# Altium integrated library Linear Technology Operational Amplifiers (LT1000).IntLib: 2280 symbols (part 41 of 79)
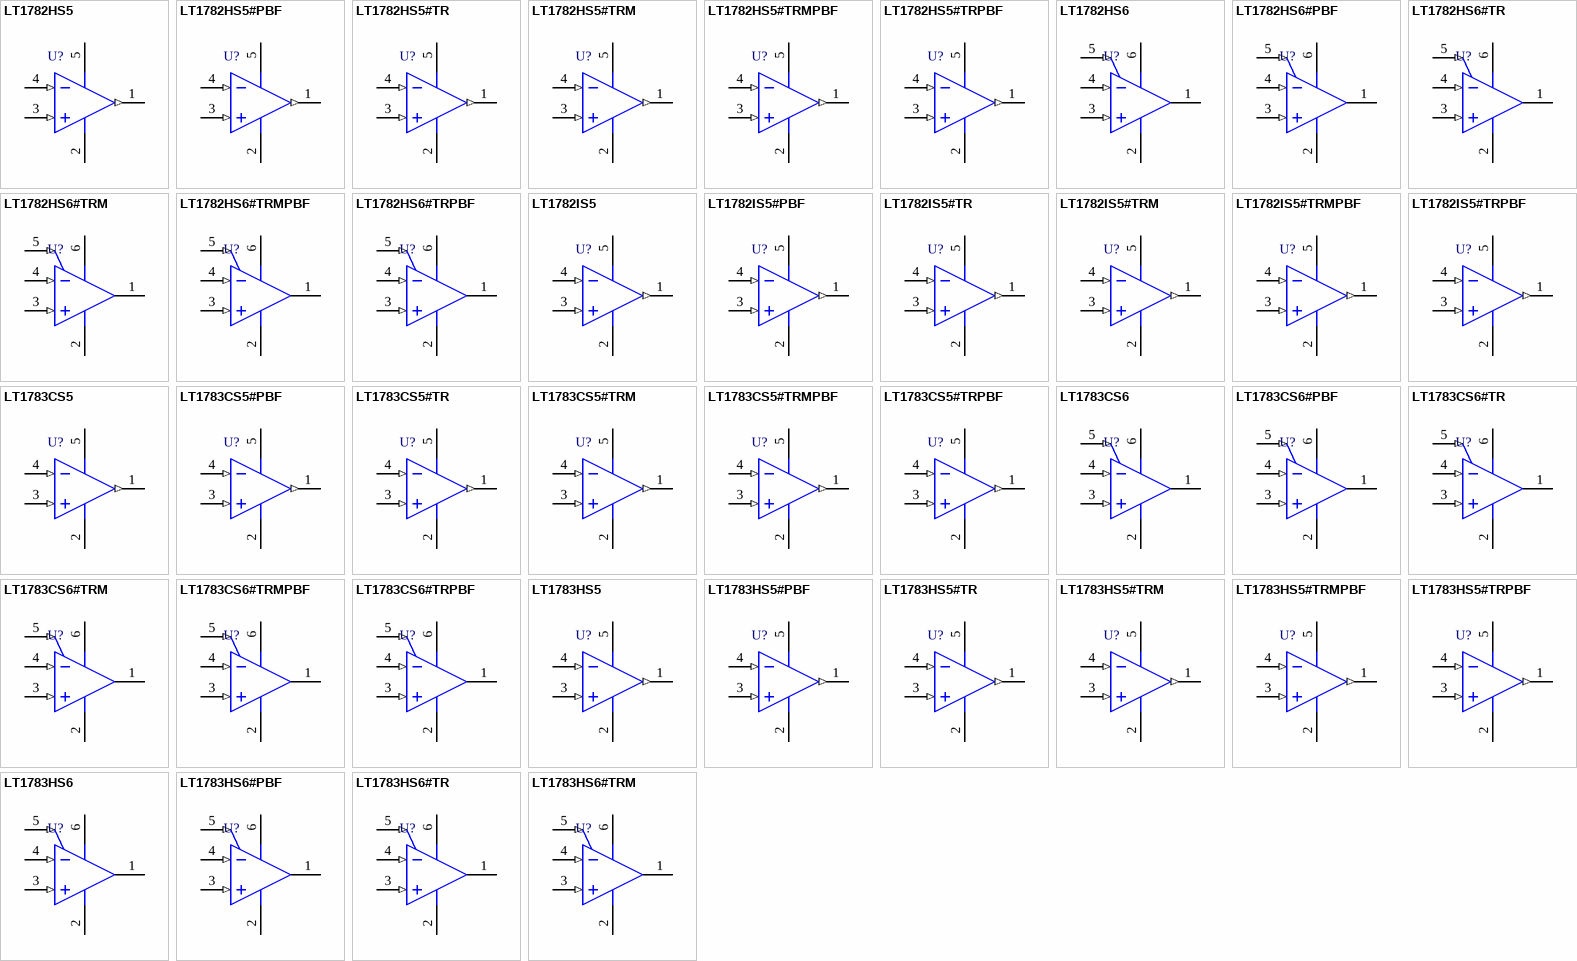
[diagram p145: symbols LT1782HS5 to LT1783HS6#TRM]

## LT1782HS5#TRM
designator U?
Single Channel, Micropower, Over-The-Top Operational Amplifier, RRIO, 0.2 MHz Typical GBW, 0.07 V/us Typical SR, 2.2 to 18 V, 5-Pin SOT23 (S5-5), High Temperature / Automotive, Mini Reel; Linear Technology Part Number: LT1782; Manufacturer: Linear Technology; PartNumber: LT1782HS5#TRM; Channels (#): 1; GBW (MHz) Typical: 0.2; Is (mA) Typical: 0.04; SR (V/us) Typical: 0.07; Vos (mV) Guaranteed: 0.8; Vos (mV) Typical: 0.4; Vs Max (V): 18; Vs Min (V): 2.2; DatasheetVersion: Rev. C; PackageReference: LT-S5-5-TSOT-23; PackageDescription: 5-Lead Plastic TSOT-23, Body 1.63 x 2.90 mm, Pitch 0.95 mm; Supplier 1: Digi-Key; Supplier Part Number 1: LT1782HS5#TRMTR-ND; Supplier 2: Digi-Key; Supplier Part Number 2: LT1782HS5#TRMCT-ND; Packing: Mini Reel; Type: VFB; Mounting Technology: Surface Mount; Code_JEDEC: MO-193; ComponentLink1Description: Manufacturer URL; ComponentLink1URL: http://www.linear.com/; ComponentLink2Description: Datasheet; ComponentLink2URL: http://cds.linear.com/docs/en/datasheet/1782fc.pdf; ComponentLink3Description: Package Specification; ComponentLink3URL: http://cds.linear.com/docs/en/packaging/SOT_5_05-08-1635.pdf
footprint LT-S5-5-TSOT-23_N (SOT23, 5-Leads, Body 2.90x1.63mm, Pitch 0.95mm, IPC Medium Density)
footprint LT-S5-5-TSOT-23_L (SOT23, 5-Leads, Body 2.90x1.63mm, Pitch 0.95mm, IPC High Density)
footprint LT-S5-5-TSOT-23_M (SOT23, 5-Leads, Body 2.90x1.63mm, Pitch 0.95mm, IPC Low Density)
pins: 1 OUT (out), 2 V- (power), 3 +IN (in), 4 -IN (in), 5 V+ (power)

## LT1782HS5#TRMPBF
designator U?
Single Channel, Micropower, Over-The-Top Operational Amplifier, RRIO, 0.2 MHz Typical GBW, 0.07 V/us Typical SR, 2.2 to 18 V, 5-Pin SOT23 (S5-5), High Temperature / Automotive, Pb-Free, Mini Reel; Linear Technology Part Number: LT1782; Manufacturer: Linear Technology; PartNumber: LT1782HS5#TRMPBF; Channels (#): 1; GBW (MHz) Typical: 0.2; Is (mA) Typical: 0.04; SR (V/us) Typical: 0.07; Vos (mV) Guaranteed: 0.8; Vos (mV) Typical: 0.4; Vs Max (V): 18; Vs Min (V): 2.2; DatasheetVersion: Rev. C; PackageReference: LT-S5-5-TSOT-23; PackageDescription: 5-Lead Plastic TSOT-23, Body 1.63 x 2.90 mm, Pitch 0.95 mm; Supplier 1: Digi-Key; Supplier Part Number 1: LT1782HS5#TRMPBFTR-ND; Supplier 2: Digi-Key; Supplier Part Number 2: LT1782HS5#TRMPBFCT-ND; Supplier 3: Digi-Key; Supplier Part Number 3: LT1782HS5#TRMPBFDKR-ND; Supplier 4: Farnell; Supplier Part Number 4: 1663785; Supplier 5: Farnell; Supplier Part Number 5: 1663785RL; Supplier 6: Newark; Supplier Part Number 6: 57M6348; Packing: Mini Reel; RoHS: Pb-Free; Type: VFB; Mounting Technology: Surface Mount; Code_JEDEC: MO-193; ComponentLink1Description: Manufacturer URL; ComponentLink1URL: http://www.linear.com/; ComponentLink2Description: Datasheet; ComponentLink2URL: http://cds.linear.com/docs/en/datasheet/1782fc.pdf; ComponentLink3Description: Package Specification; ComponentLink3URL: http://cds.linear.com/docs/en/packaging/SOT_5_05-08-1635.pdf
footprint LT-S5-5-TSOT-23_N (SOT23, 5-Leads, Body 2.90x1.63mm, Pitch 0.95mm, IPC Medium Density)
footprint LT-S5-5-TSOT-23_L (SOT23, 5-Leads, Body 2.90x1.63mm, Pitch 0.95mm, IPC High Density)
footprint LT-S5-5-TSOT-23_M (SOT23, 5-Leads, Body 2.90x1.63mm, Pitch 0.95mm, IPC Low Density)
pins: 1 OUT (out), 2 V- (power), 3 +IN (in), 4 -IN (in), 5 V+ (power)

## LT1782HS5#TRPBF
designator U?
Single Channel, Micropower, Over-The-Top Operational Amplifier, RRIO, 0.2 MHz Typical GBW, 0.07 V/us Typical SR, 2.2 to 18 V, 5-Pin SOT23 (S5-5), High Temperature / Automotive, Pb-Free, Reel; Linear Technology Part Number: LT1782; Manufacturer: Linear Technology; PartNumber: LT1782HS5#TRPBF; Channels (#): 1; GBW (MHz) Typical: 0.2; Is (mA) Typical: 0.04; SR (V/us) Typical: 0.07; Vos (mV) Guaranteed: 0.8; Vos (mV) Typical: 0.4; Vs Max (V): 18; Vs Min (V): 2.2; DatasheetVersion: Rev. C; PackageReference: LT-S5-5-TSOT-23; PackageDescription: 5-Lead Plastic TSOT-23, Body 1.63 x 2.90 mm, Pitch 0.95 mm; Supplier 1: Digi-Key; Supplier Part Number 1: LT1782HS5#TRPBF-ND; Supplier 2: Newark; Supplier Part Number 2: 57M6349; Packing: Reel; RoHS: Pb-Free; Type: VFB; Mounting Technology: Surface Mount; Code_JEDEC: MO-193; ComponentLink1Description: Manufacturer URL; ComponentLink1URL: http://www.linear.com/; ComponentLink2Description: Datasheet; ComponentLink2URL: http://cds.linear.com/docs/en/datasheet/1782fc.pdf; ComponentLink3Description: Package Specification; ComponentLink3URL: http://cds.linear.com/docs/en/packaging/SOT_5_05-08-1635.pdf
footprint LT-S5-5-TSOT-23_N (SOT23, 5-Leads, Body 2.90x1.63mm, Pitch 0.95mm, IPC Medium Density)
footprint LT-S5-5-TSOT-23_L (SOT23, 5-Leads, Body 2.90x1.63mm, Pitch 0.95mm, IPC High Density)
footprint LT-S5-5-TSOT-23_M (SOT23, 5-Leads, Body 2.90x1.63mm, Pitch 0.95mm, IPC Low Density)
pins: 1 OUT (out), 2 V- (power), 3 +IN (in), 4 -IN (in), 5 V+ (power)

## LT1782HS6
designator U?
Single Channel, Micropower, Over-The-Top Operational Amplifier, RRIO, 0.2 MHz Typical GBW, 0.07 V/us Typical SR, 2.2 to 18 V, 6-Pin SOT23 (S6-6), High Temperature / Automotive; Linear Technology Part Number: LT1782; Manufacturer: Linear Technology; PartNumber: LT1782HS6; Channels (#): 1; GBW (MHz) Typical: 0.2; Is (mA) Typical: 0.04; SR (V/us) Typical: 0.07; Vos (mV) Guaranteed: 0.8; Vos (mV) Typical: 0.4; Vs Max (V): 18; Vs Min (V): 2.2; DatasheetVersion: Rev. C; PackageReference: LT-S6-6-TSOT-23; PackageDescription: 6-Pin Plastic TSOT-23, Body 2.9 x 1.63 mm, Pitch 0.95 mm; Type: VFB; Mounting Technology: Surface Mount; Code_JEDEC: MO-193; ComponentLink1Description: Manufacturer URL; ComponentLink1URL: http://www.linear.com/; ComponentLink2Description: Datasheet; ComponentLink2URL: http://cds.linear.com/docs/en/datasheet/1782fc.pdf; ComponentLink3Description: Package Specification; ComponentLink3URL: http://cds.linear.com/docs/en/packaging/SOT_6_05-08-1636.pdf
footprint LT-S6-6-TSOT-23_N (SOT23, 6-Leads, Body 2.90x1.63mm, Pitch 0.95mm, IPC Medium Density)
footprint LT-S6-6-TSOT-23_L (SOT23, 6-Leads, Body 2.90x1.63mm, Pitch 0.95mm, IPC High Density)
footprint LT-S6-6-TSOT-23_M (SOT23, 6-Leads, Body 2.90x1.63mm, Pitch 0.95mm, IPC Low Density)
pins: 1 OUT (hiz), 2 V- (power), 3 +IN (in), 4 -IN (in), 5 SHDN (in), 6 V+ (power)

## LT1782HS6#PBF
designator U?
Single Channel, Micropower, Over-The-Top Operational Amplifier, RRIO, 0.2 MHz Typical GBW, 0.07 V/us Typical SR, 2.2 to 18 V, 6-Pin SOT23 (S6-6), High Temperature / Automotive, Pb-Free; Linear Technology Part Number: LT1782; Manufacturer: Linear Technology; PartNumber: LT1782HS6#PBF; Channels (#): 1; GBW (MHz) Typical: 0.2; Is (mA) Typical: 0.04; SR (V/us) Typical: 0.07; Vos (mV) Guaranteed: 0.8; Vos (mV) Typical: 0.4; Vs Max (V): 18; Vs Min (V): 2.2; DatasheetVersion: Rev. C; PackageReference: LT-S6-6-TSOT-23; PackageDescription: 6-Pin Plastic TSOT-23, Body 2.9 x 1.63 mm, Pitch 0.95 mm; RoHS: Pb-Free; Type: VFB; Mounting Technology: Surface Mount; Code_JEDEC: MO-193; ComponentLink1Description: Manufacturer URL; ComponentLink1URL: http://www.linear.com/; ComponentLink2Description: Datasheet; ComponentLink2URL: http://cds.linear.com/docs/en/datasheet/1782fc.pdf; ComponentLink3Description: Package Specification; ComponentLink3URL: http://cds.linear.com/docs/en/packaging/SOT_6_05-08-1636.pdf
footprint LT-S6-6-TSOT-23_N (SOT23, 6-Leads, Body 2.90x1.63mm, Pitch 0.95mm, IPC Medium Density)
footprint LT-S6-6-TSOT-23_L (SOT23, 6-Leads, Body 2.90x1.63mm, Pitch 0.95mm, IPC High Density)
footprint LT-S6-6-TSOT-23_M (SOT23, 6-Leads, Body 2.90x1.63mm, Pitch 0.95mm, IPC Low Density)
pins: 1 OUT (hiz), 2 V- (power), 3 +IN (in), 4 -IN (in), 5 SHDN (in), 6 V+ (power)

## LT1782HS6#TR
designator U?
Single Channel, Micropower, Over-The-Top Operational Amplifier, RRIO, 0.2 MHz Typical GBW, 0.07 V/us Typical SR, 2.2 to 18 V, 6-Pin SOT23 (S6-6), High Temperature / Automotive, Reel; Linear Technology Part Number: LT1782; Manufacturer: Linear Technology; PartNumber: LT1782HS6#TR; Channels (#): 1; GBW (MHz) Typical: 0.2; Is (mA) Typical: 0.04; SR (V/us) Typical: 0.07; Vos (mV) Guaranteed: 0.8; Vos (mV) Typical: 0.4; Vs Max (V): 18; Vs Min (V): 2.2; DatasheetVersion: Rev. C; PackageReference: LT-S6-6-TSOT-23; PackageDescription: 6-Pin Plastic TSOT-23, Body 2.9 x 1.63 mm, Pitch 0.95 mm; Supplier 1: Digi-Key; Supplier Part Number 1: LT1782HS6TR-ND; Packing: Reel; Type: VFB; Mounting Technology: Surface Mount; Code_JEDEC: MO-193; ComponentLink1Description: Manufacturer URL; ComponentLink1URL: http://www.linear.com/; ComponentLink2Description: Datasheet; ComponentLink2URL: http://cds.linear.com/docs/en/datasheet/1782fc.pdf; ComponentLink3Description: Package Specification; ComponentLink3URL: http://cds.linear.com/docs/en/packaging/SOT_6_05-08-1636.pdf
footprint LT-S6-6-TSOT-23_N (SOT23, 6-Leads, Body 2.90x1.63mm, Pitch 0.95mm, IPC Medium Density)
footprint LT-S6-6-TSOT-23_L (SOT23, 6-Leads, Body 2.90x1.63mm, Pitch 0.95mm, IPC High Density)
footprint LT-S6-6-TSOT-23_M (SOT23, 6-Leads, Body 2.90x1.63mm, Pitch 0.95mm, IPC Low Density)
pins: 1 OUT (hiz), 2 V- (power), 3 +IN (in), 4 -IN (in), 5 SHDN (in), 6 V+ (power)

## LT1782HS6#TRM
designator U?
Single Channel, Micropower, Over-The-Top Operational Amplifier, RRIO, 0.2 MHz Typical GBW, 0.07 V/us Typical SR, 2.2 to 18 V, 6-Pin SOT23 (S6-6), High Temperature / Automotive, Mini Reel; Linear Technology Part Number: LT1782; Manufacturer: Linear Technology; PartNumber: LT1782HS6#TRM; Channels (#): 1; GBW (MHz) Typical: 0.2; Is (mA) Typical: 0.04; SR (V/us) Typical: 0.07; Vos (mV) Guaranteed: 0.8; Vos (mV) Typical: 0.4; Vs Max (V): 18; Vs Min (V): 2.2; DatasheetVersion: Rev. C; PackageReference: LT-S6-6-TSOT-23; PackageDescription: 6-Pin Plastic TSOT-23, Body 2.9 x 1.63 mm, Pitch 0.95 mm; Supplier 1: Digi-Key; Supplier Part Number 1: LT1782HS6#TRMTR-ND; Supplier 2: Digi-Key; Supplier Part Number 2: LT1782HS6#TRMCT-ND; Packing: Mini Reel; Type: VFB; Mounting Technology: Surface Mount; Code_JEDEC: MO-193; ComponentLink1Description: Manufacturer URL; ComponentLink1URL: http://www.linear.com/; ComponentLink2Description: Datasheet; ComponentLink2URL: http://cds.linear.com/docs/en/datasheet/1782fc.pdf; ComponentLink3Description: Package Specification; ComponentLink3URL: http://cds.linear.com/docs/en/packaging/SOT_6_05-08-1636.pdf
footprint LT-S6-6-TSOT-23_N (SOT23, 6-Leads, Body 2.90x1.63mm, Pitch 0.95mm, IPC Medium Density)
footprint LT-S6-6-TSOT-23_L (SOT23, 6-Leads, Body 2.90x1.63mm, Pitch 0.95mm, IPC High Density)
footprint LT-S6-6-TSOT-23_M (SOT23, 6-Leads, Body 2.90x1.63mm, Pitch 0.95mm, IPC Low Density)
pins: 1 OUT (hiz), 2 V- (power), 3 +IN (in), 4 -IN (in), 5 SHDN (in), 6 V+ (power)

## LT1782HS6#TRMPBF
designator U?
Single Channel, Micropower, Over-The-Top Operational Amplifier, RRIO, 0.2 MHz Typical GBW, 0.07 V/us Typical SR, 2.2 to 18 V, 6-Pin SOT23 (S6-6), High Temperature / Automotive, Pb-Free, Mini Reel; Linear Technology Part Number: LT1782; Manufacturer: Linear Technology; PartNumber: LT1782HS6#TRMPBF; Channels (#): 1; GBW (MHz) Typical: 0.2; Is (mA) Typical: 0.04; SR (V/us) Typical: 0.07; Vos (mV) Guaranteed: 0.8; Vos (mV) Typical: 0.4; Vs Max (V): 18; Vs Min (V): 2.2; DatasheetVersion: Rev. C; PackageReference: LT-S6-6-TSOT-23; PackageDescription: 6-Pin Plastic TSOT-23, Body 2.9 x 1.63 mm, Pitch 0.95 mm; Supplier 1: Digi-Key; Supplier Part Number 1: LT1782HS6#TRMPBF-ND; Packing: Mini Reel; RoHS: Pb-Free; Type: VFB; Mounting Technology: Surface Mount; Code_JEDEC: MO-193; ComponentLink1Description: Manufacturer URL; ComponentLink1URL: http://www.linear.com/; ComponentLink2Description: Datasheet; ComponentLink2URL: http://cds.linear.com/docs/en/datasheet/1782fc.pdf; ComponentLink3Description: Package Specification; ComponentLink3URL: http://cds.linear.com/docs/en/packaging/SOT_6_05-08-1636.pdf
footprint LT-S6-6-TSOT-23_N (SOT23, 6-Leads, Body 2.90x1.63mm, Pitch 0.95mm, IPC Medium Density)
footprint LT-S6-6-TSOT-23_L (SOT23, 6-Leads, Body 2.90x1.63mm, Pitch 0.95mm, IPC High Density)
footprint LT-S6-6-TSOT-23_M (SOT23, 6-Leads, Body 2.90x1.63mm, Pitch 0.95mm, IPC Low Density)
pins: 1 OUT (hiz), 2 V- (power), 3 +IN (in), 4 -IN (in), 5 SHDN (in), 6 V+ (power)

## LT1782HS6#TRPBF
designator U?
Single Channel, Micropower, Over-The-Top Operational Amplifier, RRIO, 0.2 MHz Typical GBW, 0.07 V/us Typical SR, 2.2 to 18 V, 6-Pin SOT23 (S6-6), High Temperature / Automotive, Pb-Free, Reel; Linear Technology Part Number: LT1782; Manufacturer: Linear Technology; PartNumber: LT1782HS6#TRPBF; Channels (#): 1; GBW (MHz) Typical: 0.2; Is (mA) Typical: 0.04; SR (V/us) Typical: 0.07; Vos (mV) Guaranteed: 0.8; Vos (mV) Typical: 0.4; Vs Max (V): 18; Vs Min (V): 2.2; DatasheetVersion: Rev. C; PackageReference: LT-S6-6-TSOT-23; PackageDescription: 6-Pin Plastic TSOT-23, Body 2.9 x 1.63 mm, Pitch 0.95 mm; Supplier 1: Digi-Key; Supplier Part Number 1: LT1782HS6#TRPBF-ND; Packing: Reel; RoHS: Pb-Free; Type: VFB; Mounting Technology: Surface Mount; Code_JEDEC: MO-193; ComponentLink1Description: Manufacturer URL; ComponentLink1URL: http://www.linear.com/; ComponentLink2Description: Datasheet; ComponentLink2URL: http://cds.linear.com/docs/en/datasheet/1782fc.pdf; ComponentLink3Description: Package Specification; ComponentLink3URL: http://cds.linear.com/docs/en/packaging/SOT_6_05-08-1636.pdf
footprint LT-S6-6-TSOT-23_N (SOT23, 6-Leads, Body 2.90x1.63mm, Pitch 0.95mm, IPC Medium Density)
footprint LT-S6-6-TSOT-23_L (SOT23, 6-Leads, Body 2.90x1.63mm, Pitch 0.95mm, IPC High Density)
footprint LT-S6-6-TSOT-23_M (SOT23, 6-Leads, Body 2.90x1.63mm, Pitch 0.95mm, IPC Low Density)
pins: 1 OUT (hiz), 2 V- (power), 3 +IN (in), 4 -IN (in), 5 SHDN (in), 6 V+ (power)

## LT1782IS5
designator U?
Single Channel, Micropower, Over-The-Top Operational Amplifier, RRIO, 0.2 MHz Typical GBW, 0.07 V/us Typical SR, 2.2 to 18 V, 5-Pin SOT23 (S5-5), Industrial; Linear Technology Part Number: LT1782; Manufacturer: Linear Technology; PartNumber: LT1782IS5; Channels (#): 1; GBW (MHz) Typical: 0.2; Is (mA) Typical: 0.04; SR (V/us) Typical: 0.07; Vos (mV) Guaranteed: 0.8; Vos (mV) Typical: 0.4; Vs Max (V): 18; Vs Min (V): 2.2; DatasheetVersion: Rev. C; PackageReference: LT-S5-5-TSOT-23; PackageDescription: 5-Lead Plastic TSOT-23, Body 1.63 x 2.90 mm, Pitch 0.95 mm; Type: VFB; Mounting Technology: Surface Mount; Code_JEDEC: MO-193; ComponentLink1Description: Manufacturer URL; ComponentLink1URL: http://www.linear.com/; ComponentLink2Description: Datasheet; ComponentLink2URL: http://cds.linear.com/docs/en/datasheet/1782fc.pdf; ComponentLink3Description: Package Specification; ComponentLink3URL: http://cds.linear.com/docs/en/packaging/SOT_5_05-08-1635.pdf
footprint LT-S5-5-TSOT-23_N (SOT23, 5-Leads, Body 2.90x1.63mm, Pitch 0.95mm, IPC Medium Density)
footprint LT-S5-5-TSOT-23_L (SOT23, 5-Leads, Body 2.90x1.63mm, Pitch 0.95mm, IPC High Density)
footprint LT-S5-5-TSOT-23_M (SOT23, 5-Leads, Body 2.90x1.63mm, Pitch 0.95mm, IPC Low Density)
pins: 1 OUT (out), 2 V- (power), 3 +IN (in), 4 -IN (in), 5 V+ (power)

## LT1782IS5#PBF
designator U?
Single Channel, Micropower, Over-The-Top Operational Amplifier, RRIO, 0.2 MHz Typical GBW, 0.07 V/us Typical SR, 2.2 to 18 V, 5-Pin SOT23 (S5-5), Industrial, Pb-Free; Linear Technology Part Number: LT1782; Manufacturer: Linear Technology; PartNumber: LT1782IS5#PBF; Channels (#): 1; GBW (MHz) Typical: 0.2; Is (mA) Typical: 0.04; SR (V/us) Typical: 0.07; Vos (mV) Guaranteed: 0.8; Vos (mV) Typical: 0.4; Vs Max (V): 18; Vs Min (V): 2.2; DatasheetVersion: Rev. C; PackageReference: LT-S5-5-TSOT-23; PackageDescription: 5-Lead Plastic TSOT-23, Body 1.63 x 2.90 mm, Pitch 0.95 mm; Supplier 1: Farnell; Supplier Part Number 1: 1531494; Supplier 2: Newark; Supplier Part Number 2: 61M3360; RoHS: Pb-Free; Type: VFB; Mounting Technology: Surface Mount; Code_JEDEC: MO-193; ComponentLink1Description: Manufacturer URL; ComponentLink1URL: http://www.linear.com/; ComponentLink2Description: Datasheet; ComponentLink2URL: http://cds.linear.com/docs/en/datasheet/1782fc.pdf; ComponentLink3Description: Package Specification; ComponentLink3URL: http://cds.linear.com/docs/en/packaging/SOT_5_05-08-1635.pdf
footprint LT-S5-5-TSOT-23_N (SOT23, 5-Leads, Body 2.90x1.63mm, Pitch 0.95mm, IPC Medium Density)
footprint LT-S5-5-TSOT-23_L (SOT23, 5-Leads, Body 2.90x1.63mm, Pitch 0.95mm, IPC High Density)
footprint LT-S5-5-TSOT-23_M (SOT23, 5-Leads, Body 2.90x1.63mm, Pitch 0.95mm, IPC Low Density)
pins: 1 OUT (out), 2 V- (power), 3 +IN (in), 4 -IN (in), 5 V+ (power)

## LT1782IS5#TR
designator U?
Single Channel, Micropower, Over-The-Top Operational Amplifier, RRIO, 0.2 MHz Typical GBW, 0.07 V/us Typical SR, 2.2 to 18 V, 5-Pin SOT23 (S5-5), Industrial, Reel; Linear Technology Part Number: LT1782; Manufacturer: Linear Technology; PartNumber: LT1782IS5#TR; Channels (#): 1; GBW (MHz) Typical: 0.2; Is (mA) Typical: 0.04; SR (V/us) Typical: 0.07; Vos (mV) Guaranteed: 0.8; Vos (mV) Typical: 0.4; Vs Max (V): 18; Vs Min (V): 2.2; DatasheetVersion: Rev. C; PackageReference: LT-S5-5-TSOT-23; PackageDescription: 5-Lead Plastic TSOT-23, Body 1.63 x 2.90 mm, Pitch 0.95 mm; Supplier 1: Digi-Key; Supplier Part Number 1: LT1782IS5TR-ND; Packing: Reel; Type: VFB; Mounting Technology: Surface Mount; Code_JEDEC: MO-193; ComponentLink1Description: Manufacturer URL; ComponentLink1URL: http://www.linear.com/; ComponentLink2Description: Datasheet; ComponentLink2URL: http://cds.linear.com/docs/en/datasheet/1782fc.pdf; ComponentLink3Description: Package Specification; ComponentLink3URL: http://cds.linear.com/docs/en/packaging/SOT_5_05-08-1635.pdf
footprint LT-S5-5-TSOT-23_N (SOT23, 5-Leads, Body 2.90x1.63mm, Pitch 0.95mm, IPC Medium Density)
footprint LT-S5-5-TSOT-23_L (SOT23, 5-Leads, Body 2.90x1.63mm, Pitch 0.95mm, IPC High Density)
footprint LT-S5-5-TSOT-23_M (SOT23, 5-Leads, Body 2.90x1.63mm, Pitch 0.95mm, IPC Low Density)
pins: 1 OUT (out), 2 V- (power), 3 +IN (in), 4 -IN (in), 5 V+ (power)

## LT1782IS5#TRM
designator U?
Single Channel, Micropower, Over-The-Top Operational Amplifier, RRIO, 0.2 MHz Typical GBW, 0.07 V/us Typical SR, 2.2 to 18 V, 5-Pin SOT23 (S5-5), Industrial, Mini Reel; Linear Technology Part Number: LT1782; Manufacturer: Linear Technology; PartNumber: LT1782IS5#TRM; Channels (#): 1; GBW (MHz) Typical: 0.2; Is (mA) Typical: 0.04; SR (V/us) Typical: 0.07; Vos (mV) Guaranteed: 0.8; Vos (mV) Typical: 0.4; Vs Max (V): 18; Vs Min (V): 2.2; DatasheetVersion: Rev. C; PackageReference: LT-S5-5-TSOT-23; PackageDescription: 5-Lead Plastic TSOT-23, Body 1.63 x 2.90 mm, Pitch 0.95 mm; Supplier 1: Digi-Key; Supplier Part Number 1: LT1782IS5#TRMTR-ND; Supplier 2: Digi-Key; Supplier Part Number 2: LT1782IS5#TRMCT-ND; Supplier 3: Newark; Supplier Part Number 3: 57M6355; Packing: Mini Reel; Type: VFB; Mounting Technology: Surface Mount; Code_JEDEC: MO-193; ComponentLink1Description: Manufacturer URL; ComponentLink1URL: http://www.linear.com/; ComponentLink2Description: Datasheet; ComponentLink2URL: http://cds.linear.com/docs/en/datasheet/1782fc.pdf; ComponentLink3Description: Package Specification; ComponentLink3URL: http://cds.linear.com/docs/en/packaging/SOT_5_05-08-1635.pdf
footprint LT-S5-5-TSOT-23_N (SOT23, 5-Leads, Body 2.90x1.63mm, Pitch 0.95mm, IPC Medium Density)
footprint LT-S5-5-TSOT-23_L (SOT23, 5-Leads, Body 2.90x1.63mm, Pitch 0.95mm, IPC High Density)
footprint LT-S5-5-TSOT-23_M (SOT23, 5-Leads, Body 2.90x1.63mm, Pitch 0.95mm, IPC Low Density)
pins: 1 OUT (out), 2 V- (power), 3 +IN (in), 4 -IN (in), 5 V+ (power)

## LT1782IS5#TRMPBF
designator U?
Single Channel, Micropower, Over-The-Top Operational Amplifier, RRIO, 0.2 MHz Typical GBW, 0.07 V/us Typical SR, 2.2 to 18 V, 5-Pin SOT23 (S5-5), Industrial, Pb-Free, Mini Reel; Linear Technology Part Number: LT1782; Manufacturer: Linear Technology; PartNumber: LT1782IS5#TRMPBF; Channels (#): 1; GBW (MHz) Typical: 0.2; Is (mA) Typical: 0.04; SR (V/us) Typical: 0.07; Vos (mV) Guaranteed: 0.8; Vos (mV) Typical: 0.4; Vs Max (V): 18; Vs Min (V): 2.2; DatasheetVersion: Rev. C; PackageReference: LT-S5-5-TSOT-23; PackageDescription: 5-Lead Plastic TSOT-23, Body 1.63 x 2.90 mm, Pitch 0.95 mm; Supplier 1: Digi-Key; Supplier Part Number 1: LT1782IS5#TRMPBFTR-ND; Supplier 2: Digi-Key; Supplier Part Number 2: LT1782IS5#TRMPBFCT-ND; Supplier 3: Digi-Key; Supplier Part Number 3: LT1782IS5#TRMPBFDKR-ND; Supplier 4: Farnell; Supplier Part Number 4: 1663786; Supplier 5: Farnell; Supplier Part Number 5: 1663786RL; Supplier 6: Newark; Supplier Part Number 6: 57M6356; Packing: Mini Reel; RoHS: Pb-Free; Type: VFB; Mounting Technology: Surface Mount; Code_JEDEC: MO-193; ComponentLink1Description: Manufacturer URL; ComponentLink1URL: http://www.linear.com/; ComponentLink2Description: Datasheet; ComponentLink2URL: http://cds.linear.com/docs/en/datasheet/1782fc.pdf; ComponentLink3Description: Package Specification; ComponentLink3URL: http://cds.linear.com/docs/en/packaging/SOT_5_05-08-1635.pdf
footprint LT-S5-5-TSOT-23_N (SOT23, 5-Leads, Body 2.90x1.63mm, Pitch 0.95mm, IPC Medium Density)
footprint LT-S5-5-TSOT-23_L (SOT23, 5-Leads, Body 2.90x1.63mm, Pitch 0.95mm, IPC High Density)
footprint LT-S5-5-TSOT-23_M (SOT23, 5-Leads, Body 2.90x1.63mm, Pitch 0.95mm, IPC Low Density)
pins: 1 OUT (out), 2 V- (power), 3 +IN (in), 4 -IN (in), 5 V+ (power)

## LT1782IS5#TRPBF
designator U?
Single Channel, Micropower, Over-The-Top Operational Amplifier, RRIO, 0.2 MHz Typical GBW, 0.07 V/us Typical SR, 2.2 to 18 V, 5-Pin SOT23 (S5-5), Industrial, Pb-Free, Reel; Linear Technology Part Number: LT1782; Manufacturer: Linear Technology; PartNumber: LT1782IS5#TRPBF; Channels (#): 1; GBW (MHz) Typical: 0.2; Is (mA) Typical: 0.04; SR (V/us) Typical: 0.07; Vos (mV) Guaranteed: 0.8; Vos (mV) Typical: 0.4; Vs Max (V): 18; Vs Min (V): 2.2; DatasheetVersion: Rev. C; PackageReference: LT-S5-5-TSOT-23; PackageDescription: 5-Lead Plastic TSOT-23, Body 1.63 x 2.90 mm, Pitch 0.95 mm; Supplier 1: Digi-Key; Supplier Part Number 1: LT1782IS5#TRPBF-ND; Supplier 2: Newark; Supplier Part Number 2: 57M6357; Packing: Reel; RoHS: Pb-Free; Type: VFB; Mounting Technology: Surface Mount; Code_JEDEC: MO-193; ComponentLink1Description: Manufacturer URL; ComponentLink1URL: http://www.linear.com/; ComponentLink2Description: Datasheet; ComponentLink2URL: http://cds.linear.com/docs/en/datasheet/1782fc.pdf; ComponentLink3Description: Package Specification; ComponentLink3URL: http://cds.linear.com/docs/en/packaging/SOT_5_05-08-1635.pdf
footprint LT-S5-5-TSOT-23_N (SOT23, 5-Leads, Body 2.90x1.63mm, Pitch 0.95mm, IPC Medium Density)
footprint LT-S5-5-TSOT-23_L (SOT23, 5-Leads, Body 2.90x1.63mm, Pitch 0.95mm, IPC High Density)
footprint LT-S5-5-TSOT-23_M (SOT23, 5-Leads, Body 2.90x1.63mm, Pitch 0.95mm, IPC Low Density)
pins: 1 OUT (out), 2 V- (power), 3 +IN (in), 4 -IN (in), 5 V+ (power)

## LT1783CS5
designator U?
Single Channel, Micropower, Over-The-Top, Operational Amplifier, RRIO, 1.25 MHz Typical GBW, 0.42 V/us Typical SR, 2.2 to 18 V, 5-Pin SOT23 (S5-5), Commercial; Linear Technology Part Number: LT1783; Manufacturer: Linear Technology; PartNumber: LT1783CS5; Channels (#): 1; GBW (MHz) Typical: 1.25; Is (mA) Typical: 0.21; SR (V/us) Typical: 0.42; Vos (mV) Guaranteed: 0.8; Vos (mV) Typical: 0.4; Vs Max (V): 18; Vs Min (V): 2.2; DatasheetVersion: Rev. D; PackageReference: LT-S5-5-TSOT-23; PackageDescription: 5-Lead Plastic TSOT-23, Body 1.63 x 2.90 mm, Pitch 0.95 mm; Type: VFB; Mounting Technology: Surface Mount; Code_JEDEC: MO-193; ComponentLink1Description: Manufacturer URL; ComponentLink1URL: http://www.linear.com/; ComponentLink2Description: Datasheet; ComponentLink2URL: http://cds.linear.com/docs/en/datasheet/1783fd.pdf; ComponentLink3Description: Package Specification; ComponentLink3URL: http://cds.linear.com/docs/en/packaging/SOT_5_05-08-1635.pdf
footprint LT-S5-5-TSOT-23_N (SOT23, 5-Leads, Body 2.90x1.63mm, Pitch 0.95mm, IPC Medium Density)
footprint LT-S5-5-TSOT-23_L (SOT23, 5-Leads, Body 2.90x1.63mm, Pitch 0.95mm, IPC High Density)
footprint LT-S5-5-TSOT-23_M (SOT23, 5-Leads, Body 2.90x1.63mm, Pitch 0.95mm, IPC Low Density)
pins: 1 OUT (out), 2 V- (power), 3 +IN (in), 4 -IN (in), 5 V+ (power)

## LT1783CS5#PBF
designator U?
Single Channel, Micropower, Over-The-Top, Operational Amplifier, RRIO, 1.25 MHz Typical GBW, 0.42 V/us Typical SR, 2.2 to 18 V, 5-Pin SOT23 (S5-5), Commercial, Pb-Free; Linear Technology Part Number: LT1783; Manufacturer: Linear Technology; PartNumber: LT1783CS5#PBF; Channels (#): 1; GBW (MHz) Typical: 1.25; Is (mA) Typical: 0.21; SR (V/us) Typical: 0.42; Vos (mV) Guaranteed: 0.8; Vos (mV) Typical: 0.4; Vs Max (V): 18; Vs Min (V): 2.2; DatasheetVersion: Rev. D; PackageReference: LT-S5-5-TSOT-23; PackageDescription: 5-Lead Plastic TSOT-23, Body 1.63 x 2.90 mm, Pitch 0.95 mm; Supplier 1: Farnell; Supplier Part Number 1: 2294682; Supplier 2: Newark; Supplier Part Number 2: 61M3361; RoHS: Pb-Free; Type: VFB; Mounting Technology: Surface Mount; Code_JEDEC: MO-193; ComponentLink1Description: Manufacturer URL; ComponentLink1URL: http://www.linear.com/; ComponentLink2Description: Datasheet; ComponentLink2URL: http://cds.linear.com/docs/en/datasheet/1783fd.pdf; ComponentLink3Description: Package Specification; ComponentLink3URL: http://cds.linear.com/docs/en/packaging/SOT_5_05-08-1635.pdf
footprint LT-S5-5-TSOT-23_N (SOT23, 5-Leads, Body 2.90x1.63mm, Pitch 0.95mm, IPC Medium Density)
footprint LT-S5-5-TSOT-23_L (SOT23, 5-Leads, Body 2.90x1.63mm, Pitch 0.95mm, IPC High Density)
footprint LT-S5-5-TSOT-23_M (SOT23, 5-Leads, Body 2.90x1.63mm, Pitch 0.95mm, IPC Low Density)
pins: 1 OUT (out), 2 V- (power), 3 +IN (in), 4 -IN (in), 5 V+ (power)

## LT1783CS5#TR
designator U?
Single Channel, Micropower, Over-The-Top, Operational Amplifier, RRIO, 1.25 MHz Typical GBW, 0.42 V/us Typical SR, 2.2 to 18 V, 5-Pin SOT23 (S5-5), Commercial, Reel; Linear Technology Part Number: LT1783; Manufacturer: Linear Technology; PartNumber: LT1783CS5#TR; Channels (#): 1; GBW (MHz) Typical: 1.25; Is (mA) Typical: 0.21; SR (V/us) Typical: 0.42; Vos (mV) Guaranteed: 0.8; Vos (mV) Typical: 0.4; Vs Max (V): 18; Vs Min (V): 2.2; DatasheetVersion: Rev. D; PackageReference: LT-S5-5-TSOT-23; PackageDescription: 5-Lead Plastic TSOT-23, Body 1.63 x 2.90 mm, Pitch 0.95 mm; Supplier 1: Digi-Key; Supplier Part Number 1: LT1783CS5#TR-ND; Packing: Reel; Type: VFB; Mounting Technology: Surface Mount; Code_JEDEC: MO-193; ComponentLink1Description: Manufacturer URL; ComponentLink1URL: http://www.linear.com/; ComponentLink2Description: Datasheet; ComponentLink2URL: http://cds.linear.com/docs/en/datasheet/1783fd.pdf; ComponentLink3Description: Package Specification; ComponentLink3URL: http://cds.linear.com/docs/en/packaging/SOT_5_05-08-1635.pdf
footprint LT-S5-5-TSOT-23_N (SOT23, 5-Leads, Body 2.90x1.63mm, Pitch 0.95mm, IPC Medium Density)
footprint LT-S5-5-TSOT-23_L (SOT23, 5-Leads, Body 2.90x1.63mm, Pitch 0.95mm, IPC High Density)
footprint LT-S5-5-TSOT-23_M (SOT23, 5-Leads, Body 2.90x1.63mm, Pitch 0.95mm, IPC Low Density)
pins: 1 OUT (out), 2 V- (power), 3 +IN (in), 4 -IN (in), 5 V+ (power)

## LT1783CS5#TRM
designator U?
Single Channel, Micropower, Over-The-Top, Operational Amplifier, RRIO, 1.25 MHz Typical GBW, 0.42 V/us Typical SR, 2.2 to 18 V, 5-Pin SOT23 (S5-5), Commercial, Mini Reel; Linear Technology Part Number: LT1783; Manufacturer: Linear Technology; PartNumber: LT1783CS5#TRM; Channels (#): 1; GBW (MHz) Typical: 1.25; Is (mA) Typical: 0.21; SR (V/us) Typical: 0.42; Vos (mV) Guaranteed: 0.8; Vos (mV) Typical: 0.4; Vs Max (V): 18; Vs Min (V): 2.2; DatasheetVersion: Rev. D; PackageReference: LT-S5-5-TSOT-23; PackageDescription: 5-Lead Plastic TSOT-23, Body 1.63 x 2.90 mm, Pitch 0.95 mm; Supplier 1: Digi-Key; Supplier Part Number 1: LT1783CS5#TRM-ND; Packing: Mini Reel; Type: VFB; Mounting Technology: Surface Mount; Code_JEDEC: MO-193; ComponentLink1Description: Manufacturer URL; ComponentLink1URL: http://www.linear.com/; ComponentLink2Description: Datasheet; ComponentLink2URL: http://cds.linear.com/docs/en/datasheet/1783fd.pdf; ComponentLink3Description: Package Specification; ComponentLink3URL: http://cds.linear.com/docs/en/packaging/SOT_5_05-08-1635.pdf
footprint LT-S5-5-TSOT-23_N (SOT23, 5-Leads, Body 2.90x1.63mm, Pitch 0.95mm, IPC Medium Density)
footprint LT-S5-5-TSOT-23_L (SOT23, 5-Leads, Body 2.90x1.63mm, Pitch 0.95mm, IPC High Density)
footprint LT-S5-5-TSOT-23_M (SOT23, 5-Leads, Body 2.90x1.63mm, Pitch 0.95mm, IPC Low Density)
pins: 1 OUT (out), 2 V- (power), 3 +IN (in), 4 -IN (in), 5 V+ (power)

## LT1783CS5#TRMPBF
designator U?
Single Channel, Micropower, Over-The-Top, Operational Amplifier, RRIO, 1.25 MHz Typical GBW, 0.42 V/us Typical SR, 2.2 to 18 V, 5-Pin SOT23 (S5-5), Commercial, Pb-Free, Mini Reel; Linear Technology Part Number: LT1783; Manufacturer: Linear Technology; PartNumber: LT1783CS5#TRMPBF; Channels (#): 1; GBW (MHz) Typical: 1.25; Is (mA) Typical: 0.21; SR (V/us) Typical: 0.42; Vos (mV) Guaranteed: 0.8; Vos (mV) Typical: 0.4; Vs Max (V): 18; Vs Min (V): 2.2; DatasheetVersion: Rev. D; PackageReference: LT-S5-5-TSOT-23; PackageDescription: 5-Lead Plastic TSOT-23, Body 1.63 x 2.90 mm, Pitch 0.95 mm; Supplier 1: Digi-Key; Supplier Part Number 1: LT1783CS5#TRMPBFTR-ND; Supplier 2: Digi-Key; Supplier Part Number 2: LT1783CS5#TRMPBFCT-ND; Supplier 3: Digi-Key; Supplier Part Number 3: LT1783CS5#TRMPBFDKR-ND; Supplier 4: Newark; Supplier Part Number 4: 57M6364; Packing: Mini Reel; RoHS: Pb-Free; Type: VFB; Mounting Technology: Surface Mount; Code_JEDEC: MO-193; ComponentLink1Description: Manufacturer URL; ComponentLink1URL: http://www.linear.com/; ComponentLink2Description: Datasheet; ComponentLink2URL: http://cds.linear.com/docs/en/datasheet/1783fd.pdf; ComponentLink3Description: Package Specification; ComponentLink3URL: http://cds.linear.com/docs/en/packaging/SOT_5_05-08-1635.pdf
footprint LT-S5-5-TSOT-23_N (SOT23, 5-Leads, Body 2.90x1.63mm, Pitch 0.95mm, IPC Medium Density)
footprint LT-S5-5-TSOT-23_L (SOT23, 5-Leads, Body 2.90x1.63mm, Pitch 0.95mm, IPC High Density)
footprint LT-S5-5-TSOT-23_M (SOT23, 5-Leads, Body 2.90x1.63mm, Pitch 0.95mm, IPC Low Density)
pins: 1 OUT (out), 2 V- (power), 3 +IN (in), 4 -IN (in), 5 V+ (power)

## LT1783CS5#TRPBF
designator U?
Single Channel, Micropower, Over-The-Top, Operational Amplifier, RRIO, 1.25 MHz Typical GBW, 0.42 V/us Typical SR, 2.2 to 18 V, 5-Pin SOT23 (S5-5), Commercial, Pb-Free, Reel; Linear Technology Part Number: LT1783; Manufacturer: Linear Technology; PartNumber: LT1783CS5#TRPBF; Channels (#): 1; GBW (MHz) Typical: 1.25; Is (mA) Typical: 0.21; SR (V/us) Typical: 0.42; Vos (mV) Guaranteed: 0.8; Vos (mV) Typical: 0.4; Vs Max (V): 18; Vs Min (V): 2.2; DatasheetVersion: Rev. D; PackageReference: LT-S5-5-TSOT-23; PackageDescription: 5-Lead Plastic TSOT-23, Body 1.63 x 2.90 mm, Pitch 0.95 mm; Supplier 1: Digi-Key; Supplier Part Number 1: LT1783CS5#TRPBF-ND; Supplier 2: Newark; Supplier Part Number 2: 57M6365; Packing: Reel; RoHS: Pb-Free; Type: VFB; Mounting Technology: Surface Mount; Code_JEDEC: MO-193; ComponentLink1Description: Manufacturer URL; ComponentLink1URL: http://www.linear.com/; ComponentLink2Description: Datasheet; ComponentLink2URL: http://cds.linear.com/docs/en/datasheet/1783fd.pdf; ComponentLink3Description: Package Specification; ComponentLink3URL: http://cds.linear.com/docs/en/packaging/SOT_5_05-08-1635.pdf
footprint LT-S5-5-TSOT-23_N (SOT23, 5-Leads, Body 2.90x1.63mm, Pitch 0.95mm, IPC Medium Density)
footprint LT-S5-5-TSOT-23_L (SOT23, 5-Leads, Body 2.90x1.63mm, Pitch 0.95mm, IPC High Density)
footprint LT-S5-5-TSOT-23_M (SOT23, 5-Leads, Body 2.90x1.63mm, Pitch 0.95mm, IPC Low Density)
pins: 1 OUT (out), 2 V- (power), 3 +IN (in), 4 -IN (in), 5 V+ (power)

## LT1783CS6
designator U?
Single Channel, Micropower, Over-The-Top, Operational Amplifier, RRIO, 1.25 MHz Typical GBW, 0.42 V/us Typical SR, 2.2 to 18 V, 6-Pin SOT23 (S6-6), Commercial; Linear Technology Part Number: LT1783; Manufacturer: Linear Technology; PartNumber: LT1783CS6; Channels (#): 1; GBW (MHz) Typical: 1.25; Is (mA) Typical: 0.21; SR (V/us) Typical: 0.42; Vos (mV) Guaranteed: 0.8; Vos (mV) Typical: 0.4; Vs Max (V): 18; Vs Min (V): 2.2; DatasheetVersion: Rev. D; PackageReference: LT-S6-6-TSOT-23; PackageDescription: 6-Pin Plastic TSOT-23, Body 2.9 x 1.63 mm, Pitch 0.95 mm; Type: VFB; Mounting Technology: Surface Mount; Code_JEDEC: MO-193; ComponentLink1Description: Manufacturer URL; ComponentLink1URL: http://www.linear.com/; ComponentLink2Description: Datasheet; ComponentLink2URL: http://cds.linear.com/docs/en/datasheet/1783fd.pdf; ComponentLink3Description: Package Specification; ComponentLink3URL: http://cds.linear.com/docs/en/packaging/SOT_6_05-08-1636.pdf
footprint LT-S6-6-TSOT-23_N (SOT23, 6-Leads, Body 2.90x1.63mm, Pitch 0.95mm, IPC Medium Density)
footprint LT-S6-6-TSOT-23_L (SOT23, 6-Leads, Body 2.90x1.63mm, Pitch 0.95mm, IPC High Density)
footprint LT-S6-6-TSOT-23_M (SOT23, 6-Leads, Body 2.90x1.63mm, Pitch 0.95mm, IPC Low Density)
pins: 1 OUT (hiz), 2 V- (power), 3 +IN (in), 4 -IN (in), 5 SHDN (in), 6 V+ (power)

## LT1783CS6#PBF
designator U?
Single Channel, Micropower, Over-The-Top, Operational Amplifier, RRIO, 1.25 MHz Typical GBW, 0.42 V/us Typical SR, 2.2 to 18 V, 6-Pin SOT23 (S6-6), Commercial, Pb-Free; Linear Technology Part Number: LT1783; Manufacturer: Linear Technology; PartNumber: LT1783CS6#PBF; Channels (#): 1; GBW (MHz) Typical: 1.25; Is (mA) Typical: 0.21; SR (V/us) Typical: 0.42; Vos (mV) Guaranteed: 0.8; Vos (mV) Typical: 0.4; Vs Max (V): 18; Vs Min (V): 2.2; DatasheetVersion: Rev. D; PackageReference: LT-S6-6-TSOT-23; PackageDescription: 6-Pin Plastic TSOT-23, Body 2.9 x 1.63 mm, Pitch 0.95 mm; Supplier 1: Newark; Supplier Part Number 1: 86R9826; RoHS: Pb-Free; Type: VFB; Mounting Technology: Surface Mount; Code_JEDEC: MO-193; ComponentLink1Description: Manufacturer URL; ComponentLink1URL: http://www.linear.com/; ComponentLink2Description: Datasheet; ComponentLink2URL: http://cds.linear.com/docs/en/datasheet/1783fd.pdf; ComponentLink3Description: Package Specification; ComponentLink3URL: http://cds.linear.com/docs/en/packaging/SOT_6_05-08-1636.pdf
footprint LT-S6-6-TSOT-23_N (SOT23, 6-Leads, Body 2.90x1.63mm, Pitch 0.95mm, IPC Medium Density)
footprint LT-S6-6-TSOT-23_L (SOT23, 6-Leads, Body 2.90x1.63mm, Pitch 0.95mm, IPC High Density)
footprint LT-S6-6-TSOT-23_M (SOT23, 6-Leads, Body 2.90x1.63mm, Pitch 0.95mm, IPC Low Density)
pins: 1 OUT (hiz), 2 V- (power), 3 +IN (in), 4 -IN (in), 5 SHDN (in), 6 V+ (power)

## LT1783CS6#TR
designator U?
Single Channel, Micropower, Over-The-Top, Operational Amplifier, RRIO, 1.25 MHz Typical GBW, 0.42 V/us Typical SR, 2.2 to 18 V, 6-Pin SOT23 (S6-6), Commercial, Reel; Linear Technology Part Number: LT1783; Manufacturer: Linear Technology; PartNumber: LT1783CS6#TR; Channels (#): 1; GBW (MHz) Typical: 1.25; Is (mA) Typical: 0.21; SR (V/us) Typical: 0.42; Vos (mV) Guaranteed: 0.8; Vos (mV) Typical: 0.4; Vs Max (V): 18; Vs Min (V): 2.2; DatasheetVersion: Rev. D; PackageReference: LT-S6-6-TSOT-23; PackageDescription: 6-Pin Plastic TSOT-23, Body 2.9 x 1.63 mm, Pitch 0.95 mm; Supplier 1: Digi-Key; Supplier Part Number 1: LT1783CS6#TR-ND; Packing: Reel; Type: VFB; Mounting Technology: Surface Mount; Code_JEDEC: MO-193; ComponentLink1Description: Manufacturer URL; ComponentLink1URL: http://www.linear.com/; ComponentLink2Description: Datasheet; ComponentLink2URL: http://cds.linear.com/docs/en/datasheet/1783fd.pdf; ComponentLink3Description: Package Specification; ComponentLink3URL: http://cds.linear.com/docs/en/packaging/SOT_6_05-08-1636.pdf
footprint LT-S6-6-TSOT-23_N (SOT23, 6-Leads, Body 2.90x1.63mm, Pitch 0.95mm, IPC Medium Density)
footprint LT-S6-6-TSOT-23_L (SOT23, 6-Leads, Body 2.90x1.63mm, Pitch 0.95mm, IPC High Density)
footprint LT-S6-6-TSOT-23_M (SOT23, 6-Leads, Body 2.90x1.63mm, Pitch 0.95mm, IPC Low Density)
pins: 1 OUT (hiz), 2 V- (power), 3 +IN (in), 4 -IN (in), 5 SHDN (in), 6 V+ (power)

## LT1783CS6#TRM
designator U?
Single Channel, Micropower, Over-The-Top, Operational Amplifier, RRIO, 1.25 MHz Typical GBW, 0.42 V/us Typical SR, 2.2 to 18 V, 6-Pin SOT23 (S6-6), Commercial, Mini Reel; Linear Technology Part Number: LT1783; Manufacturer: Linear Technology; PartNumber: LT1783CS6#TRM; Channels (#): 1; GBW (MHz) Typical: 1.25; Is (mA) Typical: 0.21; SR (V/us) Typical: 0.42; Vos (mV) Guaranteed: 0.8; Vos (mV) Typical: 0.4; Vs Max (V): 18; Vs Min (V): 2.2; DatasheetVersion: Rev. D; PackageReference: LT-S6-6-TSOT-23; PackageDescription: 6-Pin Plastic TSOT-23, Body 2.9 x 1.63 mm, Pitch 0.95 mm; Supplier 1: Digi-Key; Supplier Part Number 1: LT1783CS6#TRM-ND; Packing: Mini Reel; Type: VFB; Mounting Technology: Surface Mount; Code_JEDEC: MO-193; ComponentLink1Description: Manufacturer URL; ComponentLink1URL: http://www.linear.com/; ComponentLink2Description: Datasheet; ComponentLink2URL: http://cds.linear.com/docs/en/datasheet/1783fd.pdf; ComponentLink3Description: Package Specification; ComponentLink3URL: http://cds.linear.com/docs/en/packaging/SOT_6_05-08-1636.pdf
footprint LT-S6-6-TSOT-23_N (SOT23, 6-Leads, Body 2.90x1.63mm, Pitch 0.95mm, IPC Medium Density)
footprint LT-S6-6-TSOT-23_L (SOT23, 6-Leads, Body 2.90x1.63mm, Pitch 0.95mm, IPC High Density)
footprint LT-S6-6-TSOT-23_M (SOT23, 6-Leads, Body 2.90x1.63mm, Pitch 0.95mm, IPC Low Density)
pins: 1 OUT (hiz), 2 V- (power), 3 +IN (in), 4 -IN (in), 5 SHDN (in), 6 V+ (power)

## LT1783CS6#TRMPBF
designator U?
Single Channel, Micropower, Over-The-Top, Operational Amplifier, RRIO, 1.25 MHz Typical GBW, 0.42 V/us Typical SR, 2.2 to 18 V, 6-Pin SOT23 (S6-6), Commercial, Pb-Free, Mini Reel; Linear Technology Part Number: LT1783; Manufacturer: Linear Technology; PartNumber: LT1783CS6#TRMPBF; Channels (#): 1; GBW (MHz) Typical: 1.25; Is (mA) Typical: 0.21; SR (V/us) Typical: 0.42; Vos (mV) Guaranteed: 0.8; Vos (mV) Typical: 0.4; Vs Max (V): 18; Vs Min (V): 2.2; DatasheetVersion: Rev. D; PackageReference: LT-S6-6-TSOT-23; PackageDescription: 6-Pin Plastic TSOT-23, Body 2.9 x 1.63 mm, Pitch 0.95 mm; Supplier 1: Digi-Key; Supplier Part Number 1: LT1783CS6#TRMPBFTR-ND; Supplier 2: Digi-Key; Supplier Part Number 2: LT1783CS6#TRMPBFCT-ND; Supplier 3: Digi-Key; Supplier Part Number 3: LT1783CS6#TRMPBFDKR-ND; Supplier 4: Newark; Supplier Part Number 4: 57M6368; Packing: Mini Reel; RoHS: Pb-Free; Type: VFB; Mounting Technology: Surface Mount; Code_JEDEC: MO-193; ComponentLink1Description: Manufacturer URL; ComponentLink1URL: http://www.linear.com/; ComponentLink2Description: Datasheet; ComponentLink2URL: http://cds.linear.com/docs/en/datasheet/1783fd.pdf; ComponentLink3Description: Package Specification; ComponentLink3URL: http://cds.linear.com/docs/en/packaging/SOT_6_05-08-1636.pdf
footprint LT-S6-6-TSOT-23_N (SOT23, 6-Leads, Body 2.90x1.63mm, Pitch 0.95mm, IPC Medium Density)
footprint LT-S6-6-TSOT-23_L (SOT23, 6-Leads, Body 2.90x1.63mm, Pitch 0.95mm, IPC High Density)
footprint LT-S6-6-TSOT-23_M (SOT23, 6-Leads, Body 2.90x1.63mm, Pitch 0.95mm, IPC Low Density)
pins: 1 OUT (hiz), 2 V- (power), 3 +IN (in), 4 -IN (in), 5 SHDN (in), 6 V+ (power)

## LT1783CS6#TRPBF
designator U?
Single Channel, Micropower, Over-The-Top, Operational Amplifier, RRIO, 1.25 MHz Typical GBW, 0.42 V/us Typical SR, 2.2 to 18 V, 6-Pin SOT23 (S6-6), Commercial, Pb-Free, Reel; Linear Technology Part Number: LT1783; Manufacturer: Linear Technology; PartNumber: LT1783CS6#TRPBF; Channels (#): 1; GBW (MHz) Typical: 1.25; Is (mA) Typical: 0.21; SR (V/us) Typical: 0.42; Vos (mV) Guaranteed: 0.8; Vos (mV) Typical: 0.4; Vs Max (V): 18; Vs Min (V): 2.2; DatasheetVersion: Rev. D; PackageReference: LT-S6-6-TSOT-23; PackageDescription: 6-Pin Plastic TSOT-23, Body 2.9 x 1.63 mm, Pitch 0.95 mm; Supplier 1: Digi-Key; Supplier Part Number 1: LT1783CS6#TRPBF-ND; Supplier 2: Newark; Supplier Part Number 2: 57M6369; Packing: Reel; RoHS: Pb-Free; Type: VFB; Mounting Technology: Surface Mount; Code_JEDEC: MO-193; ComponentLink1Description: Manufacturer URL; ComponentLink1URL: http://www.linear.com/; ComponentLink2Description: Datasheet; ComponentLink2URL: http://cds.linear.com/docs/en/datasheet/1783fd.pdf; ComponentLink3Description: Package Specification; ComponentLink3URL: http://cds.linear.com/docs/en/packaging/SOT_6_05-08-1636.pdf
footprint LT-S6-6-TSOT-23_N (SOT23, 6-Leads, Body 2.90x1.63mm, Pitch 0.95mm, IPC Medium Density)
footprint LT-S6-6-TSOT-23_L (SOT23, 6-Leads, Body 2.90x1.63mm, Pitch 0.95mm, IPC High Density)
footprint LT-S6-6-TSOT-23_M (SOT23, 6-Leads, Body 2.90x1.63mm, Pitch 0.95mm, IPC Low Density)
pins: 1 OUT (hiz), 2 V- (power), 3 +IN (in), 4 -IN (in), 5 SHDN (in), 6 V+ (power)

## LT1783HS5
designator U?
Single Channel, Micropower, Over-The-Top, Operational Amplifier, RRIO, 1.25 MHz Typical GBW, 0.42 V/us Typical SR, 2.2 to 18 V, 5-Pin SOT23 (S5-5), High Temperature / Automotive; Linear Technology Part Number: LT1783; Manufacturer: Linear Technology; PartNumber: LT1783HS5; Channels (#): 1; GBW (MHz) Typical: 1.25; Is (mA) Typical: 0.21; SR (V/us) Typical: 0.42; Vos (mV) Guaranteed: 0.8; Vos (mV) Typical: 0.4; Vs Max (V): 18; Vs Min (V): 2.2; DatasheetVersion: Rev. D; PackageReference: LT-S5-5-TSOT-23; PackageDescription: 5-Lead Plastic TSOT-23, Body 1.63 x 2.90 mm, Pitch 0.95 mm; Type: VFB; Mounting Technology: Surface Mount; Code_JEDEC: MO-193; ComponentLink1Description: Manufacturer URL; ComponentLink1URL: http://www.linear.com/; ComponentLink2Description: Datasheet; ComponentLink2URL: http://cds.linear.com/docs/en/datasheet/1783fd.pdf; ComponentLink3Description: Package Specification; ComponentLink3URL: http://cds.linear.com/docs/en/packaging/SOT_5_05-08-1635.pdf
footprint LT-S5-5-TSOT-23_N (SOT23, 5-Leads, Body 2.90x1.63mm, Pitch 0.95mm, IPC Medium Density)
footprint LT-S5-5-TSOT-23_L (SOT23, 5-Leads, Body 2.90x1.63mm, Pitch 0.95mm, IPC High Density)
footprint LT-S5-5-TSOT-23_M (SOT23, 5-Leads, Body 2.90x1.63mm, Pitch 0.95mm, IPC Low Density)
pins: 1 OUT (out), 2 V- (power), 3 +IN (in), 4 -IN (in), 5 V+ (power)

## LT1783HS5#PBF
designator U?
Single Channel, Micropower, Over-The-Top, Operational Amplifier, RRIO, 1.25 MHz Typical GBW, 0.42 V/us Typical SR, 2.2 to 18 V, 5-Pin SOT23 (S5-5), High Temperature / Automotive, Pb-Free; Linear Technology Part Number: LT1783; Manufacturer: Linear Technology; PartNumber: LT1783HS5#PBF; Channels (#): 1; GBW (MHz) Typical: 1.25; Is (mA) Typical: 0.21; SR (V/us) Typical: 0.42; Vos (mV) Guaranteed: 0.8; Vos (mV) Typical: 0.4; Vs Max (V): 18; Vs Min (V): 2.2; DatasheetVersion: Rev. D; PackageReference: LT-S5-5-TSOT-23; PackageDescription: 5-Lead Plastic TSOT-23, Body 1.63 x 2.90 mm, Pitch 0.95 mm; Supplier 1: Newark; Supplier Part Number 1: 78T3715; RoHS: Pb-Free; Type: VFB; Mounting Technology: Surface Mount; Code_JEDEC: MO-193; ComponentLink1Description: Manufacturer URL; ComponentLink1URL: http://www.linear.com/; ComponentLink2Description: Datasheet; ComponentLink2URL: http://cds.linear.com/docs/en/datasheet/1783fd.pdf; ComponentLink3Description: Package Specification; ComponentLink3URL: http://cds.linear.com/docs/en/packaging/SOT_5_05-08-1635.pdf
footprint LT-S5-5-TSOT-23_N (SOT23, 5-Leads, Body 2.90x1.63mm, Pitch 0.95mm, IPC Medium Density)
footprint LT-S5-5-TSOT-23_L (SOT23, 5-Leads, Body 2.90x1.63mm, Pitch 0.95mm, IPC High Density)
footprint LT-S5-5-TSOT-23_M (SOT23, 5-Leads, Body 2.90x1.63mm, Pitch 0.95mm, IPC Low Density)
pins: 1 OUT (out), 2 V- (power), 3 +IN (in), 4 -IN (in), 5 V+ (power)

## LT1783HS5#TR
designator U?
Single Channel, Micropower, Over-The-Top, Operational Amplifier, RRIO, 1.25 MHz Typical GBW, 0.42 V/us Typical SR, 2.2 to 18 V, 5-Pin SOT23 (S5-5), High Temperature / Automotive, Reel; Linear Technology Part Number: LT1783; Manufacturer: Linear Technology; PartNumber: LT1783HS5#TR; Channels (#): 1; GBW (MHz) Typical: 1.25; Is (mA) Typical: 0.21; SR (V/us) Typical: 0.42; Vos (mV) Guaranteed: 0.8; Vos (mV) Typical: 0.4; Vs Max (V): 18; Vs Min (V): 2.2; DatasheetVersion: Rev. D; PackageReference: LT-S5-5-TSOT-23; PackageDescription: 5-Lead Plastic TSOT-23, Body 1.63 x 2.90 mm, Pitch 0.95 mm; Supplier 1: Digi-Key; Supplier Part Number 1: LT1783HS5TR-ND; Packing: Reel; Type: VFB; Mounting Technology: Surface Mount; Code_JEDEC: MO-193; ComponentLink1Description: Manufacturer URL; ComponentLink1URL: http://www.linear.com/; ComponentLink2Description: Datasheet; ComponentLink2URL: http://cds.linear.com/docs/en/datasheet/1783fd.pdf; ComponentLink3Description: Package Specification; ComponentLink3URL: http://cds.linear.com/docs/en/packaging/SOT_5_05-08-1635.pdf
footprint LT-S5-5-TSOT-23_N (SOT23, 5-Leads, Body 2.90x1.63mm, Pitch 0.95mm, IPC Medium Density)
footprint LT-S5-5-TSOT-23_L (SOT23, 5-Leads, Body 2.90x1.63mm, Pitch 0.95mm, IPC High Density)
footprint LT-S5-5-TSOT-23_M (SOT23, 5-Leads, Body 2.90x1.63mm, Pitch 0.95mm, IPC Low Density)
pins: 1 OUT (out), 2 V- (power), 3 +IN (in), 4 -IN (in), 5 V+ (power)

## LT1783HS5#TRM
designator U?
Single Channel, Micropower, Over-The-Top, Operational Amplifier, RRIO, 1.25 MHz Typical GBW, 0.42 V/us Typical SR, 2.2 to 18 V, 5-Pin SOT23 (S5-5), High Temperature / Automotive, Mini Reel; Linear Technology Part Number: LT1783; Manufacturer: Linear Technology; PartNumber: LT1783HS5#TRM; Channels (#): 1; GBW (MHz) Typical: 1.25; Is (mA) Typical: 0.21; SR (V/us) Typical: 0.42; Vos (mV) Guaranteed: 0.8; Vos (mV) Typical: 0.4; Vs Max (V): 18; Vs Min (V): 2.2; DatasheetVersion: Rev. D; PackageReference: LT-S5-5-TSOT-23; PackageDescription: 5-Lead Plastic TSOT-23, Body 1.63 x 2.90 mm, Pitch 0.95 mm; Supplier 1: Digi-Key; Supplier Part Number 1: LT1783HS5#TRMTR-ND; Supplier 2: Digi-Key; Supplier Part Number 2: LT1783HS5#TRMCT-ND; Packing: Mini Reel; Type: VFB; Mounting Technology: Surface Mount; Code_JEDEC: MO-193; ComponentLink1Description: Manufacturer URL; ComponentLink1URL: http://www.linear.com/; ComponentLink2Description: Datasheet; ComponentLink2URL: http://cds.linear.com/docs/en/datasheet/1783fd.pdf; ComponentLink3Description: Package Specification; ComponentLink3URL: http://cds.linear.com/docs/en/packaging/SOT_5_05-08-1635.pdf
footprint LT-S5-5-TSOT-23_N (SOT23, 5-Leads, Body 2.90x1.63mm, Pitch 0.95mm, IPC Medium Density)
footprint LT-S5-5-TSOT-23_L (SOT23, 5-Leads, Body 2.90x1.63mm, Pitch 0.95mm, IPC High Density)
footprint LT-S5-5-TSOT-23_M (SOT23, 5-Leads, Body 2.90x1.63mm, Pitch 0.95mm, IPC Low Density)
pins: 1 OUT (out), 2 V- (power), 3 +IN (in), 4 -IN (in), 5 V+ (power)

## LT1783HS5#TRMPBF
designator U?
Single Channel, Micropower, Over-The-Top, Operational Amplifier, RRIO, 1.25 MHz Typical GBW, 0.42 V/us Typical SR, 2.2 to 18 V, 5-Pin SOT23 (S5-5), High Temperature / Automotive, Pb-Free, Mini Reel; Linear Technology Part Number: LT1783; Manufacturer: Linear Technology; PartNumber: LT1783HS5#TRMPBF; Channels (#): 1; GBW (MHz) Typical: 1.25; Is (mA) Typical: 0.21; SR (V/us) Typical: 0.42; Vos (mV) Guaranteed: 0.8; Vos (mV) Typical: 0.4; Vs Max (V): 18; Vs Min (V): 2.2; DatasheetVersion: Rev. D; PackageReference: LT-S5-5-TSOT-23; PackageDescription: 5-Lead Plastic TSOT-23, Body 1.63 x 2.90 mm, Pitch 0.95 mm; Supplier 1: Digi-Key; Supplier Part Number 1: LT1783HS5#TRMPBFTR-ND; Supplier 2: Digi-Key; Supplier Part Number 2: LT1783HS5#TRMPBFCT-ND; Supplier 3: Digi-Key; Supplier Part Number 3: LT1783HS5#TRMPBFDKR-ND; Supplier 4: Farnell; Supplier Part Number 4: 1663788; Supplier 5: Farnell; Supplier Part Number 5: 1663788RL; Packing: Mini Reel; RoHS: Pb-Free; Type: VFB; Mounting Technology: Surface Mount; Code_JEDEC: MO-193; ComponentLink1Description: Manufacturer URL; ComponentLink1URL: http://www.linear.com/; ComponentLink2Description: Datasheet; ComponentLink2URL: http://cds.linear.com/docs/en/datasheet/1783fd.pdf; ComponentLink3Description: Package Specification; ComponentLink3URL: http://cds.linear.com/docs/en/packaging/SOT_5_05-08-1635.pdf
footprint LT-S5-5-TSOT-23_N (SOT23, 5-Leads, Body 2.90x1.63mm, Pitch 0.95mm, IPC Medium Density)
footprint LT-S5-5-TSOT-23_L (SOT23, 5-Leads, Body 2.90x1.63mm, Pitch 0.95mm, IPC High Density)
footprint LT-S5-5-TSOT-23_M (SOT23, 5-Leads, Body 2.90x1.63mm, Pitch 0.95mm, IPC Low Density)
pins: 1 OUT (out), 2 V- (power), 3 +IN (in), 4 -IN (in), 5 V+ (power)

## LT1783HS5#TRPBF
designator U?
Single Channel, Micropower, Over-The-Top, Operational Amplifier, RRIO, 1.25 MHz Typical GBW, 0.42 V/us Typical SR, 2.2 to 18 V, 5-Pin SOT23 (S5-5), High Temperature / Automotive, Pb-Free, Reel; Linear Technology Part Number: LT1783; Manufacturer: Linear Technology; PartNumber: LT1783HS5#TRPBF; Channels (#): 1; GBW (MHz) Typical: 1.25; Is (mA) Typical: 0.21; SR (V/us) Typical: 0.42; Vos (mV) Guaranteed: 0.8; Vos (mV) Typical: 0.4; Vs Max (V): 18; Vs Min (V): 2.2; DatasheetVersion: Rev. D; PackageReference: LT-S5-5-TSOT-23; PackageDescription: 5-Lead Plastic TSOT-23, Body 1.63 x 2.90 mm, Pitch 0.95 mm; Supplier 1: Digi-Key; Supplier Part Number 1: LT1783HS5#TRPBF-ND; Supplier 2: Newark; Supplier Part Number 2: 57M6373; Packing: Reel; RoHS: Pb-Free; Type: VFB; Mounting Technology: Surface Mount; Code_JEDEC: MO-193; ComponentLink1Description: Manufacturer URL; ComponentLink1URL: http://www.linear.com/; ComponentLink2Description: Datasheet; ComponentLink2URL: http://cds.linear.com/docs/en/datasheet/1783fd.pdf; ComponentLink3Description: Package Specification; ComponentLink3URL: http://cds.linear.com/docs/en/packaging/SOT_5_05-08-1635.pdf
footprint LT-S5-5-TSOT-23_N (SOT23, 5-Leads, Body 2.90x1.63mm, Pitch 0.95mm, IPC Medium Density)
footprint LT-S5-5-TSOT-23_L (SOT23, 5-Leads, Body 2.90x1.63mm, Pitch 0.95mm, IPC High Density)
footprint LT-S5-5-TSOT-23_M (SOT23, 5-Leads, Body 2.90x1.63mm, Pitch 0.95mm, IPC Low Density)
pins: 1 OUT (out), 2 V- (power), 3 +IN (in), 4 -IN (in), 5 V+ (power)